# Altium schematic symbol library THERM.SchLib: 1 symbol
Pins are listed as number, name and electrical type; pins without a type are passive.

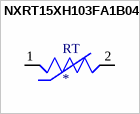
[diagram p0: symbol NXRT15XH103FA1B040]

## NXRT15XH103FA1B040
designator RT
THERMISTOR NTC 10KOHM 3380K BEAD; MP: NXRT15XH103FA1B040; MF: Murata; SnapEDA_Link: https://www.snapeda.com/parts/NXRT15XH103FA1B040/Murata/view-part/4705344/?ref=snap; Package: Bead Murata; Price: None; Value: *; Availability: Unavailable
footprint THERM_NXRT15XH103FA1B040
pins: 1, 2